# EAGLE library part COPERNICUS-II (library gps-gsm)
Copernicus-II GPS Receiver Module SMD GPS Receiver module, made by Trimble Navigation Ltd, Embedded Systems Group <http://www.trimble.com/embeddedsystems/> Partnumber: 63530-00 and 63530-10 Datasheet, User Manual and Tools <http://www.trimble.com/embeddedsystems/copernicus2.aspx> Created by Trimble Navigation Ltd, Author: Christian Voit <mailto:christian_voit@trimble.com?subject=Trimble Eagle Library>
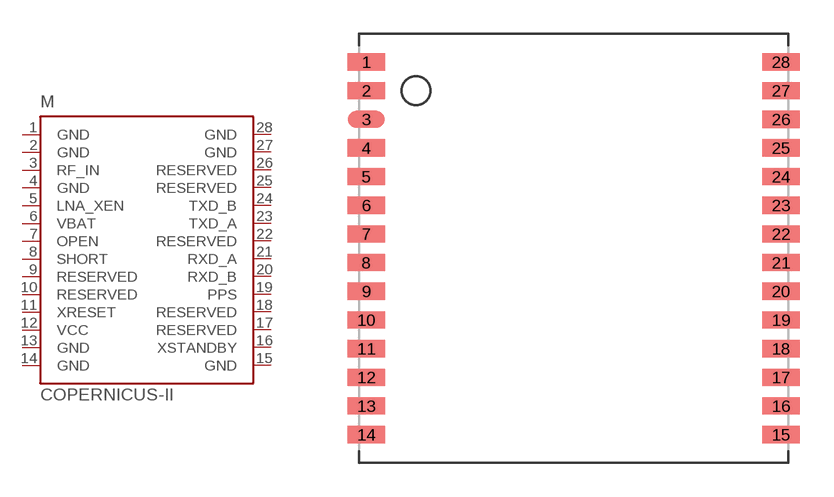
[diagram p7: symbol with the pads of 1919; footprint 1919]

Designator prefix M

## COPERNICUS-II-SMD  [1919]
1  GND  pwr
2  GND  pwr
3  RF_IN  in
4  GND  pwr
5  LNA_XEN  out
6  VBAT  in
7  OPEN  in
8  SHORT  in
9  RESERVED  nc
10  RESERVED  nc
11  XRESET  in
12  VCC  pwr
13  GND  pwr
14  GND  pwr
15  GND  pwr
16  XSTANDBY  in
17  RESERVED  nc
18  RESERVED  nc
19  PPS  out
20  RXD_B  in
21  RXD_A  in
22  RESERVED  nc
23  TXD_A  out
24  TXD_B  out
25  RESERVED  nc
26  RESERVED  nc
27  GND  pwr
28  GND  pwr

## Footprint 1919 (pad centres in mm)
Package 1919, 28-pads Size: 19 mm x 19 mm x 2.54 mm 28 SMD edge-castellation pads, 1.27 mm pad-pitch by Trimble Navigation Ltd, Embedded Systems Group <http://www.trimble.com/embeddedsystems/> Used for: Condor C1919A, C1919B, C1919C, Copernicus, Copernicus-II, Resolution-SMT, ICM-SMT, Aardvark, Buffalo B1919 Created by Trimble Navigation Ltd, Author: Christian Voit <mailto:christian_voit@trimble.com?subject=Trimble Eagle Library>
smd 1.651 x 0.762: 1 -9.182,8.255; 2 -9.182,6.985; 3 -9.182,5.715; 4 -9.182,4.445; 5 -9.182,3.175; 6 -9.182,1.905; 7 -9.182,0.635; 8 -9.182,-0.635; 9 -9.182,-1.905; 10 -9.182,-3.175; 11 -9.182,-4.445; 12 -9.182,-5.715; 13 -9.182,-6.985; 14 -9.182,-8.255; 15 9.182,-8.255; 16 9.182,-6.985; 17 9.182,-5.715; 18 9.182,-4.445; 19 9.182,-3.175; 20 9.182,-1.905; 21 9.182,-0.635; 22 9.182,0.635; 23 9.182,1.905; 24 9.182,3.175; 25 9.182,4.445; 26 9.182,5.715; 27 9.182,6.985; 28 9.182,8.255